# Altium footprint library PCB - POWER - SIL-6(7).PCBLIB: 1 footprints
Each footprint in its own frame and in the unit in brackets; x right, y up, seen from the top. Pads: shape width x height; smd on the part's side, far side on the other; paste and mask are expansions set on the pad; w line width, h text height; cw(c..) or ccw(c..) is an arc to the next point about the centre after c.
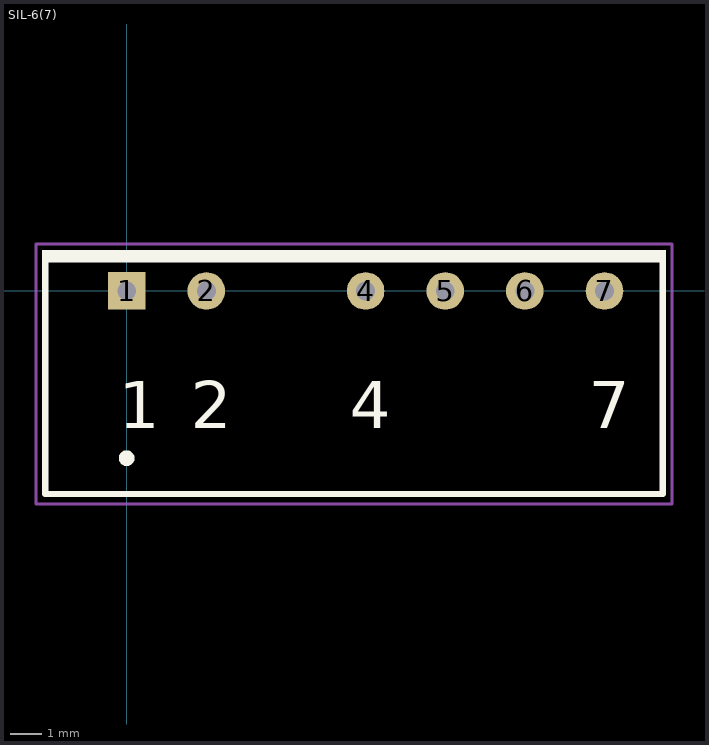
[diagram p0: the footprint, top view; thin cyan lines are the x and y axes]

## SIL-6(7) [mm] "SIP; 7 Leads (1 Absent); Body 19.5 x 6 mm (LxW typ); Pitch 2.54 mm"
height 10
pads (6):
  rect 1.2x1.2 hole 0.6: 1(0,0)
  round 1.2 hole 0.6: 2(2.54,0) 4(7.62,0) 5(10.16,0) 6(12.7,0) 7(15.24,0)
Top Overlay:
  circle w0.25: c0,-5.334 r0.125
  rectangle: -2.7,0.9 17.2,1.3
  lines w0.2: -2.6,1.023 -2.6,-6.477 17.1,-6.477 17.1,1.023
  text "1" at -0.25,-4.375 h1.5
  text "7" at 14.74,-4.375 h1.5
  text "4" at 7.12,-4.375 h1.5
  text "2" at 2.04,-4.375 h1.5
Top Assembly:
  lines w0.1: -2.6,-6.5 17.1,-6.5 17.1,1.2 -2.6,1.2 -2.6,-6.5
Top Courtyard:
  lines w0.1: -2.9,-6.8 -2.9,1.5 17.4,1.5 17.4,-6.8 -2.9,-6.8
Top Designator:
  text ".Designator" at 9.349,-5.926 h1
Top Value (Mech13):
  text ".Comment" at 9.5,-4.89 h1
3D body "tmh0505s.stp": height 10.5, standoff -2.9, extent -2.511,-6.467 16.989,1.133